# EAGLE library part PIC16F873 (library Digilent)
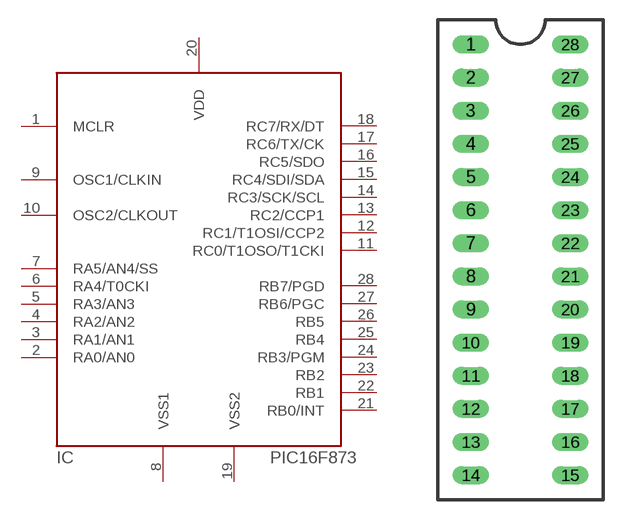
[diagram p6: symbol with the pads of DIP-28S; footprint DIP-28S]

Designator prefix IC

## PIC16F873/P  [DIP-28S]
1  MCLR  in
2  RA0/AN0
3  RA1/AN1
4  RA2/AN2
5  RA3/AN3
6  RA4/T0CKI
7  RA5/AN4/SS
8  VSS1  pwr
9  OSC1/CLKIN  in
10  OSC2/CLKOUT  out
11  RC0/T1OSO/T1CKI
12  RC1/T1OSI/CCP2
13  RC2/CCP1
14  RC3/SCK/SCL
15  RC4/SDI/SDA
16  RC5/SDO
17  RC6/TX/CK
18  RC7/RX/DT
19  VSS2  pwr
20  VDD  pwr
21  RB0/INT
22  RB1
23  RB2
24  RB3/PGM
25  RB4
26  RB5
27  RB6/PGC
28  RB7/PGD

## Footprint DIP-28S (pad centres in mm)
drill 0.889 long: 1 -3.81,16.51; 2 -3.81,13.97; 3 -3.81,11.43; 4 -3.81,8.89; 5 -3.81,6.35; 6 -3.81,3.81; 7 -3.81,1.27; 8 -3.81,-1.27; 9 -3.81,-3.81; 10 -3.81,-6.35; 11 -3.81,-8.89; 12 -3.81,-11.43; 13 -3.81,-13.97; 14 -3.81,-16.51; 15 3.81,-16.51; 16 3.81,-13.97; 17 3.81,-11.43; 18 3.81,-8.89; 19 3.81,-6.35; 20 3.81,-3.81; 21 3.81,-1.27; 22 3.81,1.27; 23 3.81,3.81; 24 3.81,6.35; 25 3.81,8.89; 26 3.81,11.43; 27 3.81,13.97; 28 3.81,16.51